# EAGLE library part FE06-1 (library _pinsocket)
FEMALE HEADER
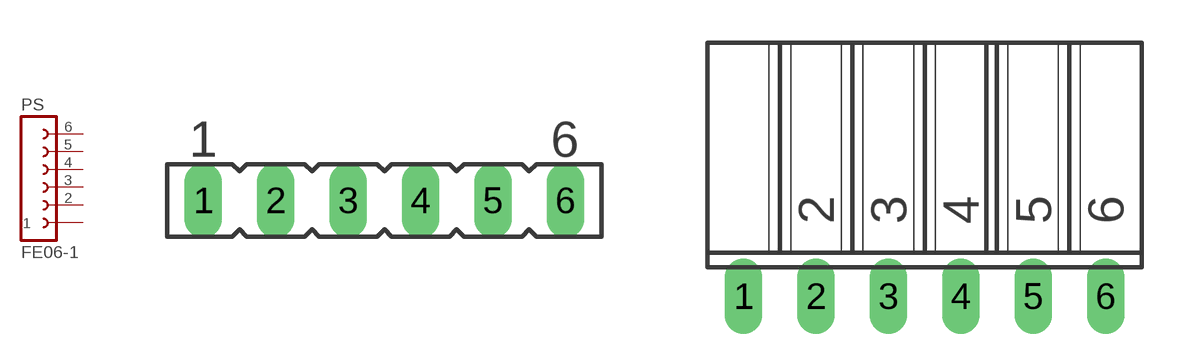
[diagram p1: symbol with the pads of 1X6-I; footprints 1X6-I, 1X6-L]

Designator prefix PS

## FE06-1I (OC_FARNELL: unknown; OC_NEWARK: unknown)  [1X6-I]
1  1  pas
2  2  pas
3  3  pas
4  4  pas
5  5  pas
6  6  pas

## FE06-1L  [1X6-L]
Pads as for 1X6-I

## Footprint 1X6-I (pad centres in mm)
FEMALE HEADER
drill 0.813 long: 1 -6.35,0; 2 -3.81,0; 3 -1.27,0; 4 1.27,0; 5 3.81,0; 6 6.35,0

## Footprint 1X6-L (pad centres in mm)
FEMALE HEADER
drill 0.813 long: 1 -6.35,0; 2 -3.81,0; 3 -1.27,0; 4 1.27,0; 5 3.81,0; 6 6.35,0